# Altium schematic symbol library Ant.SchLib: 14 symbols
Pins are listed as number, name and electrical type; pins without a type are passive.

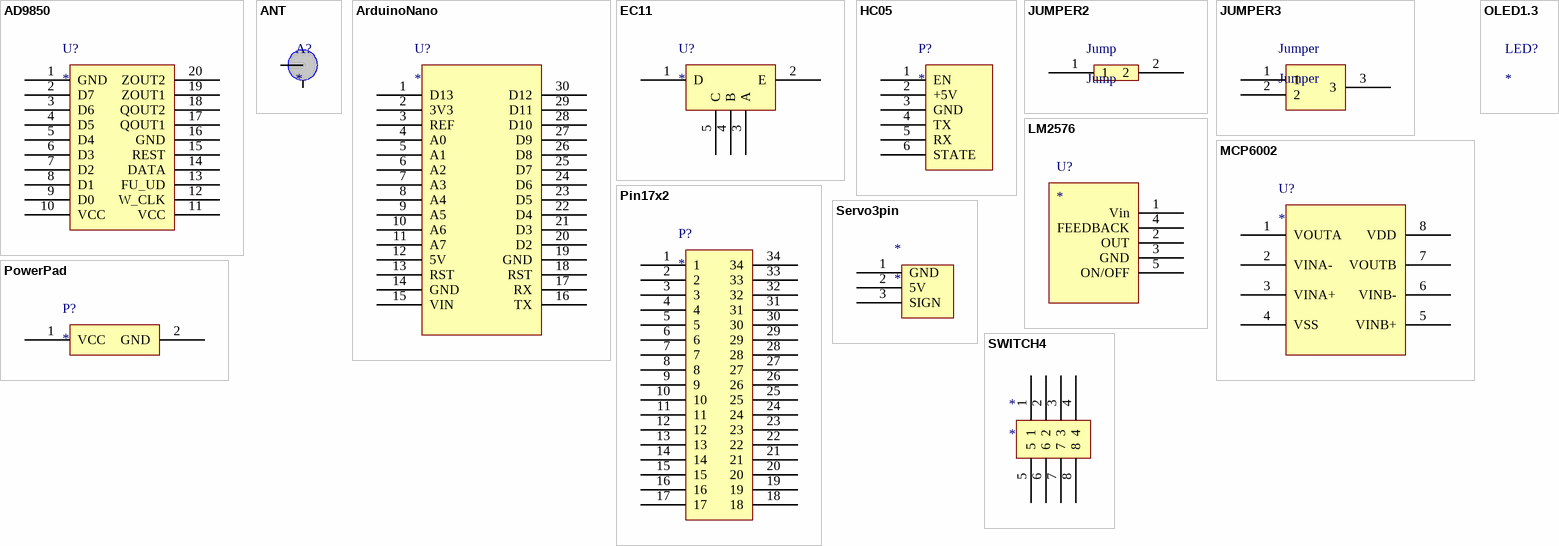
[diagram p0: symbols AD9850 to SWITCH4]

## AD9850
designator U?
pins: 1 GND, 2 D7, 3 D6, 4 D5, 5 D4, 6 D3, 7 D2, 8 D1, 9 D0, 10 VCC, 11 VCC, 12 W_CLK, 13 FU_UD, 14 DATA, 15 REST, 16 GND, 17 QOUT1, 18 QOUT2, 19 ZOUT1, 20 ZOUT2

## ANT
designator A?
pins: 1, 2

## ArduinoNano
designator U?
pins: 1 D13, 2 3V3, 3 REF, 4 A0, 5 A1, 6 A2, 7 A3, 8 A4, 9 A5, 10 A6, 11 A7, 12 5V, 13 RST, 14 GND, 15 VIN, 16 TX, 17 RX, 18 RST, 19 GND, 20 D2, 21 D3, 22 D4, 23 D5, 24 D6, 25 D7, 26 D8, 27 D9, 28 D10, 29 D11, 30 D12

## EC11
designator U?
pins: 1 D, 2 E, 3 A, 4 B, 5 C

## HC05
designator P?
pins: 1 EN, 2 +5V, 3 GND, 4 TX, 5 RX, 6 STATE

## JUMPER2
designator Jump, comment Jump
pins: 1, 2

## JUMPER3
designator Jumper, comment Jumper
pins: 1, 2, 3

## LM2576
designator U?
pins: 1 Vin, 2 OUT, 3 GND, 4 FEEDBACK, 5 ON/OFF

## MCP6002
designator U?
pins: 1 VOUTA, 2 VINA-, 3 VINA+, 4 VSS, 5 VINB+, 6 VINB-, 7 VOUTB, 8 VDD

## OLED1.3
designator LED?
1 alternate drawing of the same symbol

## Pin17x2
designator P?
footprint Pin17x2
pins: 1, 2, 3, 4, 5, 6, 7, 8, 9, 10, 11, 12, 13, 14, 15, 16, 17, 18, 19, 20, 21, 22, 23, 24, 25, 26, 27, 28, 29, 30, 31, 32, 33, 34

## PowerPad
designator P?
pins: 1 VCC, 2 GND

## Servo3pin
designator *
footprint PIN3
pins: 1 GND, 2 5V, 3 SIGN

## SWITCH4
designator *
pins: 1, 2, 3, 4, 5, 6, 7, 8